# Altium footprint library DC050T20.PcbLib: 1 footprints
Each footprint in its own frame and in the unit in brackets; x right, y up, seen from the top. Pads: shape width x height; smd on the part's side, far side on the other; paste and mask are expansions set on the pad; w line width, h text height; cw(c..) or ccw(c..) is an arc to the next point about the centre after c.
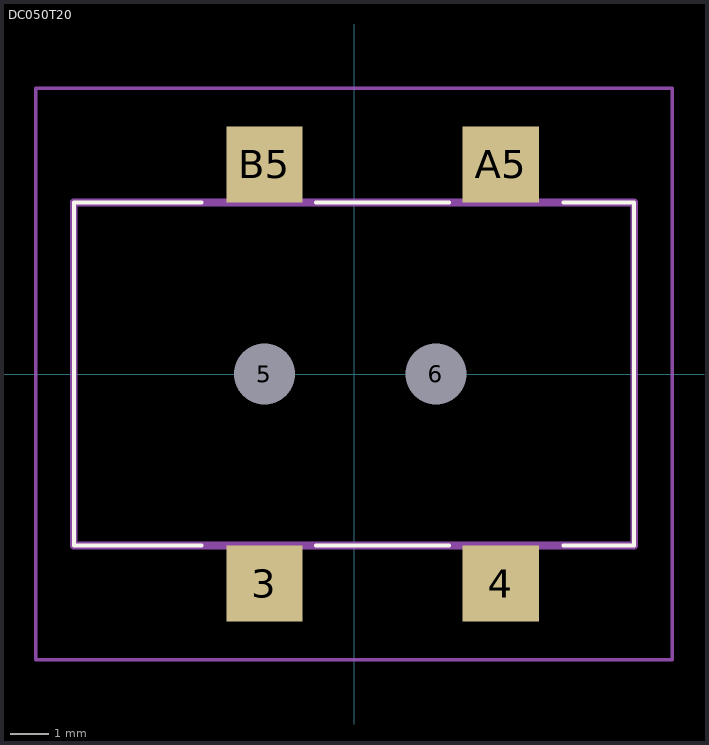
[diagram p0: the footprint, top view; thin cyan lines are the x and y axes]

## DC050T20 [mm]
pads (6):
  rect 2x2 smd: 3(-2.35,-5.5) 4(3.85,-5.5) A5(3.85,5.5) B5(-2.35,5.5)
  round 0.8 hole 1.6 unplated: 5(-2.35,0) 6(2.15,0)
Top Overlay:
  lines w0.1: -4,-4.5 -7.35,-4.5 -7.35,4.5 -4,4.5 ; -1,-4.5 2.5,-4.5 ; -1,4.5 2.5,4.5 ; 5.5,-4.5 7.35,-4.5 7.35,4.5 5.5,4.5
Mechanical 15:
  lines w0.2: -7.35,-4.5 7.35,-4.5 7.35,4.5 -7.35,4.5 -7.35,-4.5
Mechanical 20:
  lines w0.1: -8.35,-7.5 8.35,-7.5 8.35,7.5 -8.35,7.5 -8.35,-7.5